# EAGLE library part CAS-220TB (library TIparts)
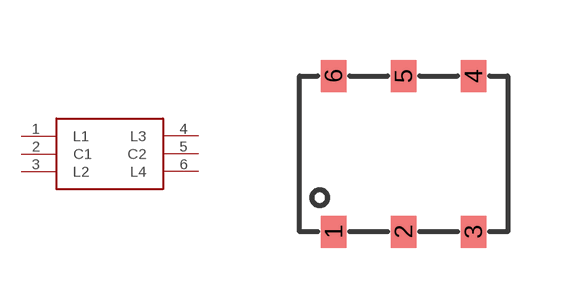
[diagram p4: symbol with the pads of DPDT_DIP_SWITCH; footprint DPDT_DIP_SWITCH]

Designator prefix -

## CAS-220TB  [DPDT_DIP_SWITCH]
1  L1
2  C1
3  L2
4  L3
5  C2
6  L4

## Footprint DPDT_DIP_SWITCH (pad centres in mm)
smd 0.635 x 0.8: 1 -1.75,-1.95; 2 0,-1.95; 3 1.75,-1.95; 4 1.75,1.95; 5 0,1.95; 6 -1.75,1.95